# EAGLE library part MAX8881 (library KwanSystems)
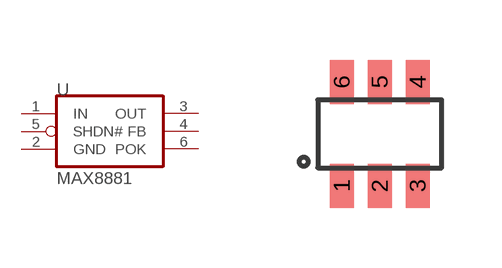
[diagram p23: symbol with the pads of SOT-23-6; footprint SOT-23-6]

Designator prefix -

## MAX8881  [SOT-23-6]
1  IN
2  GND
3  OUT
4  FB
5  SHDN#
6  POK

## Footprint SOT-23-6 (pad centres in mm)
smd 0.6 x 1.1: 1 -0.95,-1.3; 2 0,-1.3; 3 0.95,-1.3; 4 0.95,1.3; 5 0,1.3; 6 -0.95,1.3